# Altium integrated library UF4005.IntLib: 1 symbol
Pins are listed as number, name and electrical type; pins without a type are passive.

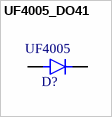
[diagram p0: symbol UF4005_DO41]

## UF4005_DO41
designator D?, comment UF4005
Diode Standard 600V 1A DO-41; SnapEDA_Link: *; MP: UF4005; Availability: Unavailable; Price: None; Value: *; Package: DO-41; MF: UF4005
pins: A, C